# Altium footprint library 690357280676.PcbLib: 1 footprints
Each footprint in its own frame and in the unit in brackets; x right, y up, seen from the top. Pads: shape width x height; smd on the part's side, far side on the other; paste and mask are expansions set on the pad; w line width, h text height; cw(c..) or ccw(c..) is an arc to the next point about the centre after c.
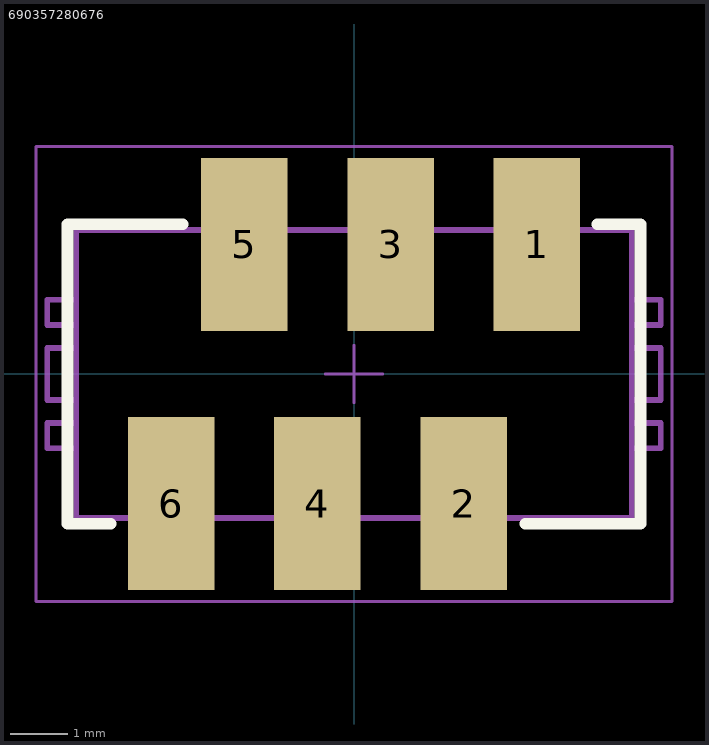
[diagram p0: the footprint, top view; thin cyan lines are the x and y axes]

## 690357280676 [mm]
pads (6):
  rect 1.5x3 smd: 1(3.175,2.25) 2(1.905,-2.25) 3(0.635,2.25) 4(-0.635,-2.25) 5(-1.905,2.25) 6(-3.175,-2.25)
Top Overlay:
  lines w0.2: -4.22,-2.6 -4.975,-2.6 -4.975,2.6 -2.97,2.6 ; 2.97,-2.6 4.975,-2.6 4.975,2.6 4.22,2.6
Top Designator:
  text ".Designator" at -7.498,-0.5 h1.5
Top Component Outline:
  lines w0.1: -4.825,-1.29 -5.325,-1.29 -5.325,-0.85 -4.825,-0.85 ; -4.825,-0.45 -5.325,-0.45 -5.325,0.45 -4.825,0.45 ; -4.825,0.85 -5.325,0.85 -5.325,1.29 -4.825,1.29 ; -3.425,-2.5 -3.425,-3.25 -2.925,-3.25 -2.925,-2.5 ; -2.155,2.5 -2.155,3.25 -1.655,3.25 -1.655,2.5 ; -0.885,-2.5 -0.885,-3.25 -0.385,-3.25 -0.385,-2.5 ; 0.385,2.5 0.385,3.25 0.885,3.25 0.885,2.5 ; 1.655,-2.5 1.655,-3.25 2.155,-3.25 2.155,-2.5 ; 2.925,2.5 2.925,3.25 3.425,3.25 3.425,2.5 ; 4.825,-1.29 5.325,-1.29 5.325,-0.85 4.825,-0.85 ; 4.825,-0.45 5.325,-0.45 5.325,0.45 4.825,0.45 ; 4.825,0.85 5.325,0.85 5.325,1.29 4.825,1.29 ; -4.825,-2.5 -4.825,2.5 4.825,2.5 4.825,-2.5 ; -4.825,-2.5 4.825,-2.5 ; -4.825,-2.5 4.825,-2.5
Top 3D Body:
  lines w0.1: -4.825,-1.29 -5.325,-1.29 -5.325,-0.85 -4.825,-0.85 ; -4.825,-0.45 -5.325,-0.45 -5.325,0.45 -4.825,0.45 ; -4.825,0.85 -5.325,0.85 -5.325,1.29 -4.825,1.29 ; -3.425,-2.5 -3.425,-3.25 -2.925,-3.25 -2.925,-2.5 ; -2.155,2.5 -2.155,3.25 -1.655,3.25 -1.655,2.5 ; -0.885,-2.5 -0.885,-3.25 -0.385,-3.25 -0.385,-2.5 ; 0.385,2.5 0.385,3.25 0.885,3.25 0.885,2.5 ; 1.655,-2.5 1.655,-3.25 2.155,-3.25 2.155,-2.5 ; 2.925,2.5 2.925,3.25 3.425,3.25 3.425,2.5 ; 4.825,-1.29 5.325,-1.29 5.325,-0.85 4.825,-0.85 ; 4.825,-0.45 5.325,-0.45 5.325,0.45 4.825,0.45 ; 4.825,0.85 5.325,0.85 5.325,1.29 4.825,1.29 ; -4.825,-2.5 4.825,-2.5 ; -4.825,-2.5 4.825,-2.5 ; -4.825,-2.5 -4.825,2.5 4.825,2.5 4.825,-2.5
Top Courtyard:
  lines w0.05: -0.5,0 0.5,0 ; 0,-0.5 0,0.5 ; -5.525,-3.95 -5.525,3.95 5.525,3.95 5.525,-3.95 -5.525,-3.95
3D body "690357280676.stp": height 5.16, standoff 0.01, extent -5.325,-3.25 5.325,3.25